# EAGLE library part W25Q32RVXHJQ (library FaBo-NORFLASH)
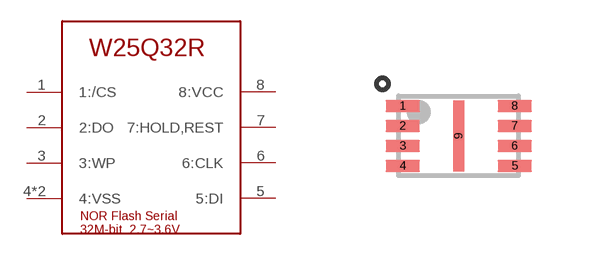
[diagram p1: symbol with the pads of XSON8; footprint XSON8]

Designator prefix -

## W25Q32RVXHJQ  [XSON8]
1  1:/CS  in
2  2:DO  out
3  3:WP
4  4:VSS  pwr
5  5:DI
6  6:CLK  in
7  7:HOLD,REST
8  8:VCC  pwr
9  4:VSS  pwr

## Footprint XSON8 (pad centres in mm)
smd 0.85 x 0.3: 1 -1.4,0.75; 2 -1.4,0.25; 3 -1.4,-0.25; 4 -1.4,-0.75; 5 1.4,-0.75; 6 1.4,-0.25; 7 1.4,0.25; 8 1.4,0.75
smd 0.3 x 1.78: 9 0,0